# EAGLE library part 43045-10_S (library con-molex-micro-fit)
HEADER
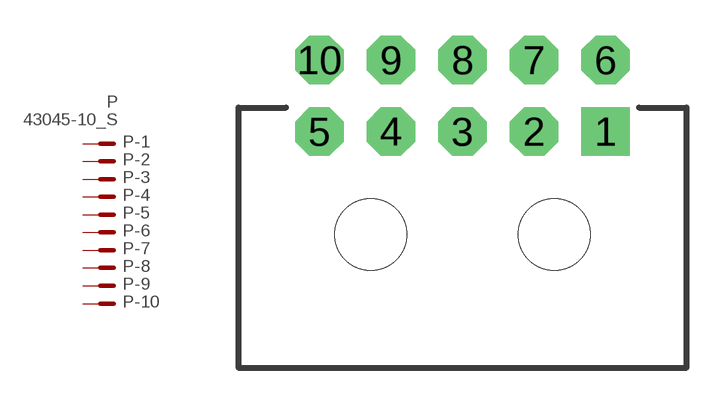
[diagram p12: symbol with the pads of 43045-10; footprint 43045-10]

Designator prefix P; gates -1=P-NV -2=P-N -3=P-N -4=P-N -5=P-N -6=P-N -7=P-N -8=P-N -9=P-N -10=P-N

## 43045-10_S  [43045-10]
1  -1:P  pas
2  -2:P  pas
3  -3:P  pas
4  -4:P  pas
5  -5:P  pas
6  -6:P  pas
7  -7:P  pas
8  -8:P  pas
9  -9:P  pas
10  -10:P  pas

## Footprint 43045-10 (pad centres in mm)
HEADER
drill 1.016 pad 2.032 square: 1 6,0
drill 1.016 pad 2.032 octagon: 2 3,0; 3 0,0; 4 -3,0; 5 -6,0; 6 6,3; 7 3,3; 8 0,3; 9 -3,3; 10 -6,3
hole 3 at -3.85,-4.32
hole 3 at 3.85,-4.32